# EAGLE library part CAMDEN-CTB5000/6 (library connectors-terminal)
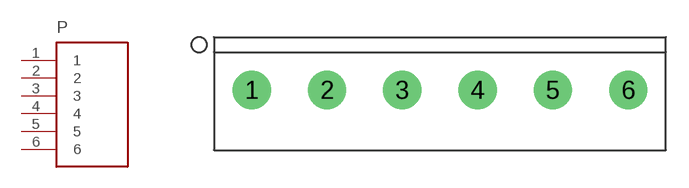
[diagram p0: symbol with the pads of CAMDEN-CTB5000; footprint CAMDEN-CTB5000]

Designator prefix P

## CAMDEN-CTB5000/6 (FARNELL: CN11531)  [CAMDEN-CTB5000]
1  1
2  2
3  3
4  4
5  5
6  6

## Footprint CAMDEN-CTB5000 (pad centres in mm)
drill 1.2 pad 2.54: 1 -12.5,0; 2 -7.5,0; 3 -2.5,0; 4 2.5,0; 5 7.5,0; 6 12.5,0